# Altium footprint library Discrete_t1.PcbLib: 293 footprints (part 11 of 19)
Each footprint in its own frame and in the unit in brackets; x right, y up, seen from the top. Pads: shape width x height; smd on the part's side, far side on the other; paste and mask are expansions set on the pad; w line width, h text height; cw(c..) or ccw(c..) is an arc to the next point about the centre after c.
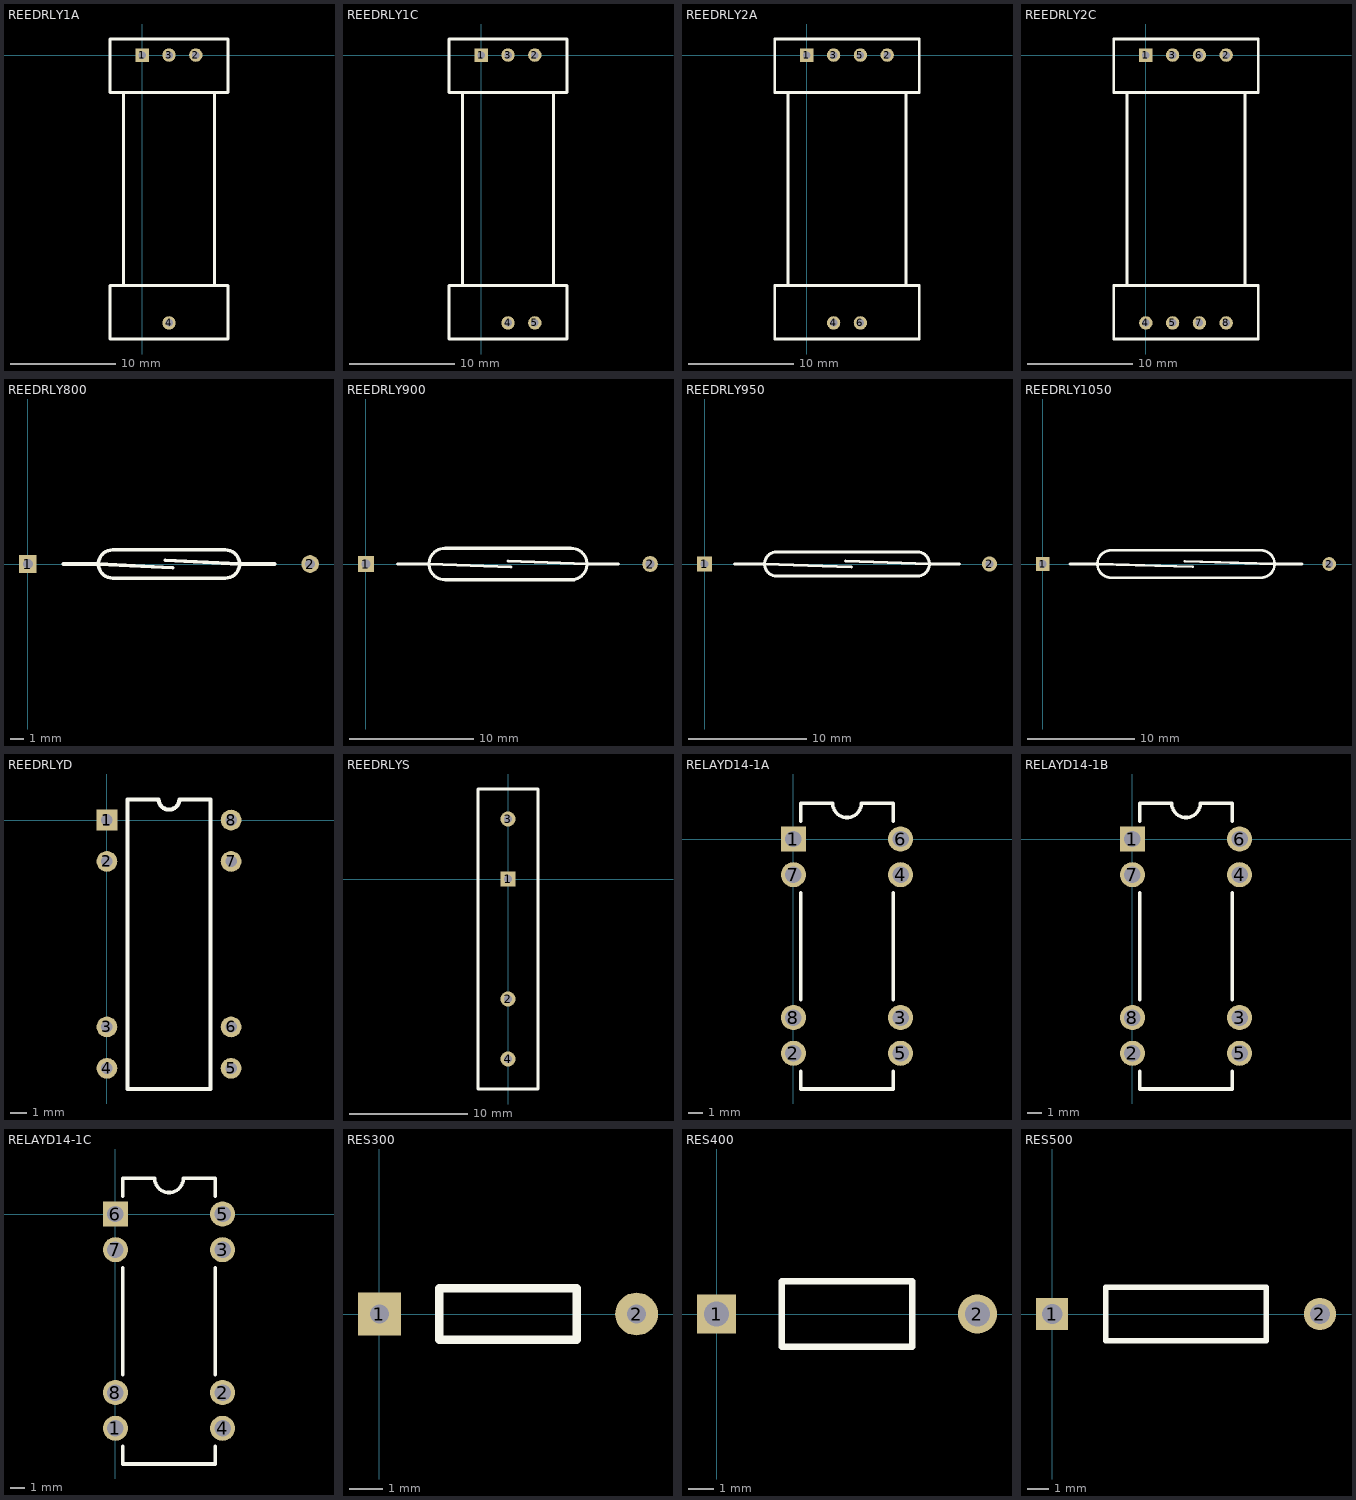
[diagram p10: the footprints below, top view; thin cyan lines are the x and y axes]

## REEDRLY1A [mil]
pads (4):
  rect 50x50 hole 28: 1(0,0)
  round 50 hole 28: 2(200,0) 3(100,0) 4(100,-1000)
Top Overlay:
  lines w10: -70,-860 -70,-140 ; 270,-860 270,-140 ; -120,-1060 320,-1060 320,-860 -120,-860 -120,-1060 ; -120,-140 -120,60 320,60 320,-140 -120,-140

## REEDRLY1C [mil]
pads (5):
  rect 50x50 hole 28: 1(0,0)
  round 50 hole 28: 2(200,0) 3(100,0) 4(100,-1000) 5(200,-1000)
Top Overlay:
  lines w10: -70,-860 -70,-140 ; 270,-860 270,-140 ; -120,-1060 320,-1060 320,-860 -120,-860 -120,-1060 ; -120,-140 320,-140 320,60 -120,60 -120,-140

## REEDRLY2A [mil]
pads (6):
  rect 50x50 hole 28: 1(0,0)
  round 50 hole 28: 2(300,0) 3(100,0) 4(100,-1000) 5(200,0) 6(200,-1000)
Top Overlay:
  lines w10: -70,-860 -70,-140 ; 370,-860 370,-140 ; -120,-1060 420,-1060 420,-860 -120,-860 -120,-1060 ; -120,-140 420,-140 420,60 -120,60 -120,-140

## REEDRLY2C [mil]
pads (8):
  rect 50x50 hole 28: 1(0,0)
  round 50 hole 28: 2(300,0) 3(100,0) 4(0,-1000) 5(100,-1000) 6(200,0) 7(200,-1000) 8(300,-1000)
Top Overlay:
  lines w10: -70,-860 -70,-140 ; 370,-860 370,-140 ; -120,-1060 -120,-860 420,-860 420,-1060 -120,-1060 ; -120,-140 -120,60 420,60 420,-140 -120,-140

## REEDRLY800 [mil]
pads (2):
  rect 50x50 hole 28: 1(0,0)
  round 50 hole 28: 2(800,0)
Top Overlay:
  lines w10: 100,0 200,0 410,-10 ; 390,10 600,0 700,0 ; 240,-40 cw(c240,0) 240,40 560,40 cw(c560,0) 560,-40 240,-40

## REEDRLY900 [mil]
pads (2):
  rect 50x50 hole 28: 1(0,0)
  round 50 hole 28: 2(900,0)
Top Overlay:
  lines w10: 100,0 200,0 460,-10 ; 450,10 700,0 800,0 ; 650,-50 ccw(c650,0) 650,50 250,50 ccw(c250,0) 250,-50 660,-50

## REEDRLY950 [mil]
pads (2):
  rect 50x50 hole 28: 1(0,0)
  round 50 hole 28: 2(950,0)
Top Overlay:
  lines w10: 100,0 200,0 490,-10 ; 470,10 750,0 850,0 ; 240,-40 cw(c240,0) 240,40 710,40 cw(c710,0) 710,-40 240,-40

## REEDRLY1050 [mil]
pads (2):
  rect 50x50 hole 28: 1(0,0)
  round 50 hole 28: 2(1050,0)
Top Overlay:
  lines w10: 100,0 200,0 550,-10 ; 520,10 850,0 950,0 ; 250,-50 cw(c250,0) 250,50 800,50 cw(c800,0) 800,-50 250,-50

## REEDRLYD [mil]
pads (8):
  rect 50x50 hole 28: 1(0,0)
  round 50 hole 28: 2(0,-100) 3(0,-500) 4(0,-600) 5(300,-600) 6(300,-500) 7(300,-100) 8(300,0)
Top Overlay:
  lines w10: 50,-650 250,-650 250,50 175,50 cw(c150,50) 125,50 50,50 50,-650

## REEDRLYS [mil]
pads (4):
  rect 50x50 hole 28: 1(0,0)
  round 50 hole 28: 2(0,-400) 3(0,200) 4(0,-600)
Top Overlay:
  lines w10: -100,-700 100,-700 100,300 -100,300 -100,-700

## RELAYD14-1A [mil]
pads (8):
  rect 70x70 hole 46: 1(0,0)
  round 70 hole 46: 2(0,-600) 3(300,-500) 4(300,-100) 5(300,-600) 6(300,0) 7(0,-100) 8(0,-500)
Top Overlay:
  lines w10: 20,-650 20,-700 280,-700 280,-650 ; 20,-450 20,-150 ; 20,50 20,100 110,100 ccw(c150,100) 190,100 280,100 280,50 ; 280,-450 280,-150

## RELAYD14-1B [mil]
pads (8):
  rect 70x70 hole 46: 1(0,0)
  round 70 hole 46: 2(0,-600) 3(300,-500) 4(300,-100) 5(300,-600) 6(300,0) 7(0,-100) 8(0,-500)
Top Overlay:
  lines w10: 20,-650 20,-700 280,-700 280,-650 ; 20,-450 20,-150 ; 20,50 20,100 110,100 ccw(c150,100) 190,100 280,100 280,50 ; 280,-450 280,-150

## RELAYD14-1C [mil]
pads (8):
  round 70 hole 46: 1(0,-600) 2(300,-500) 3(300,-100) 4(300,-600) 5(300,0) 7(0,-100) 8(0,-500)
  rect 70x70 hole 46: 6(0,0)
Top Overlay:
  lines w10: 20,-650 20,-700 280,-700 280,-650 ; 20,-450 20,-150 ; 20,50 20,100 110,100 ccw(c150,100) 190,100 280,100 280,50 ; 280,-450 280,-150

## RES300 [mil]
pads (2):
  rect 50x50 hole 22: 1(0,0)
  round 50 hole 22: 2(300,0)
Top Overlay:
  lines w10: 70,-30 70,30 230,30 230,-30 70,-30

## RES400 [mil]
pads (2):
  rect 60x60 hole 38: 1(0,0)
  round 60 hole 38: 2(400,0)
Top Overlay:
  lines w10: 100,-50 100,50 300,50 300,-50 100,-50

## RES500 [mil]
pads (2):
  rect 60x60 hole 38: 1(0,0)
  round 60 hole 38: 2(500,0)
Top Overlay:
  lines w10: 100,-50 100,50 400,50 400,-50 100,-50